# EAGLE library part PORT_KB_COCO (library coco)
PIN HEADER
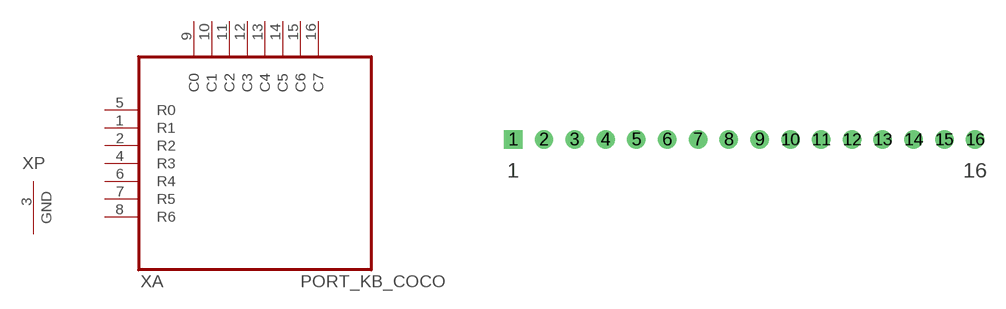
[diagram p4: symbol with the pads of MA_16-1_100; footprint MA_16-1_100]

Designator prefix X; gates A=PORT_KB_COCO P=GND

## PORT_KB_COCO-R  [MA_16-1_100]
1  A:R1  pas
2  A:R2  pas
3  P:GND  pwr
4  A:R3  pas
5  A:R0  pas
6  A:R4  pas
7  A:R5  pas
8  A:R6  pas
9  A:C0  pas
10  A:C1  pas
11  A:C2  pas
12  A:C3  pas
13  A:C4  pas
14  A:C5  pas
15  A:C6  pas
16  A:C7  pas

## Footprint MA_16-1_100 (pad centres in mm)
PIN HEADER
drill 1.016 square: 1 -19.05,0
drill 1.016: 2 -16.51,0; 3 -13.97,0; 4 -11.43,0; 5 -8.89,0; 6 -6.35,0; 7 -3.81,0; 8 -1.27,0; 9 1.27,0; 10 3.81,0; 11 6.35,0; 12 8.89,0; 13 11.43,0; 14 13.97,0; 15 16.51,0; 16 19.05,0